# EAGLE library part ADS7804 (library burr-brown-5a)
12-Bit 10us Sampling CMOS ADC
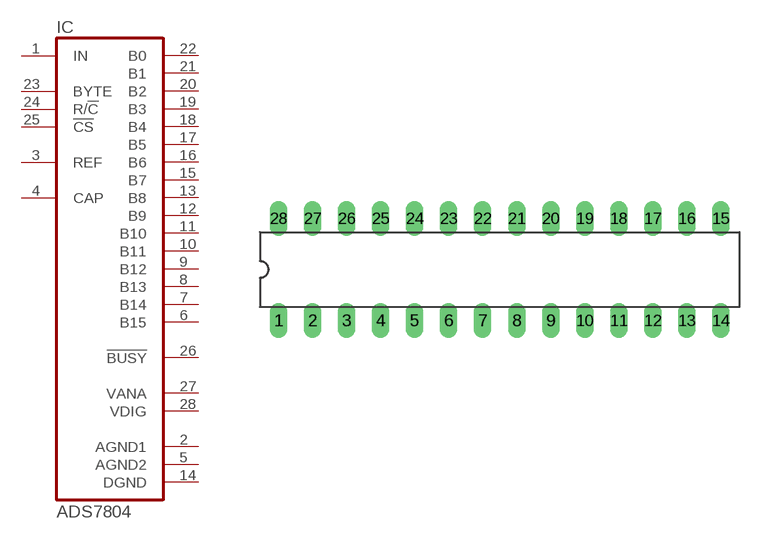
[diagram p167: symbol with the pads of DIL28-3; footprint DIL28-3]

Designator prefix IC

## ADS7804P  [DIL28-3]
1  IN  in
2  AGND1  pwr
3  REF
4  CAP  pas
5  AGND2  pwr
6  B15  out
7  B14  out
8  B13  out
9  B12  out
10  B11  out
11  B10  out
12  B9  out
13  B8  out
14  DGND  pwr
15  B7  out
16  B6  out
17  B5  out
18  B4  out
19  B3  out
20  B2  out
21  B1  out
22  B0  out
23  BYTE  in
24  R/!C  in
25  !CS  in
26  !BUSY  out
27  VANA  pwr
28  VDIG  pwr

## Footprint DIL28-3 (pad centres in mm)
Dual In Line 0.3 inch
drill 0.813 long: 1 -16.51,-3.81; 2 -13.97,-3.81; 3 -11.43,-3.81; 4 -8.89,-3.81; 5 -6.35,-3.81; 6 -3.81,-3.81; 7 -1.27,-3.81; 8 1.27,-3.81; 9 3.81,-3.81; 10 6.35,-3.81; 11 8.89,-3.81; 12 11.43,-3.81; 13 13.97,-3.81; 14 16.51,-3.81; 15 16.51,3.81; 16 13.97,3.81; 17 11.43,3.81; 18 8.89,3.81; 19 6.35,3.81; 20 3.81,3.81; 21 1.27,3.81; 22 -1.27,3.81; 23 -3.81,3.81; 24 -6.35,3.81; 25 -8.89,3.81; 26 -11.43,3.81; 27 -13.97,3.81; 28 -16.51,3.81